# EAGLE library part 74AC11353 (library 74ac-logic)
Dual 4 to 1 line DATA SELECTOR/MULTIPLEXER
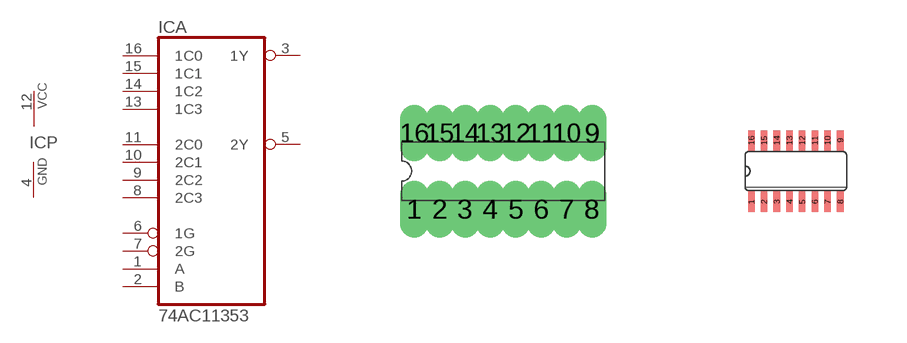
[diagram p42: symbol with the pads of DIL16; footprints DIL16, SO16]

Designator prefix IC; gates A=7411353 P=PWRN

## 74AC11353  [DIL16]
1  A:A  in
2  A:B  in
3  A:1Y  hiz
4  P:GND  pwr
5  A:2Y  hiz
6  A:1G  in
7  A:2G  in
8  A:2C3  in
9  A:2C2  in
10  A:2C1  in
11  A:2C0  in
12  P:VCC  pwr
13  A:1C3  in
14  A:1C2  in
15  A:1C1  in
16  A:1C0  in

## 74AC11353D  [SO16]
Pads as for DIL16

## Footprint DIL16 (pad centres in mm)
Dual In Line Package
drill 0.203 long: 1 -2.223,-0.953; 2 -1.587,-0.953; 3 -0.953,-0.953; 4 -0.318,-0.953; 5 0.318,-0.953; 6 0.953,-0.953; 7 1.587,-0.953; 8 2.223,-0.953; 9 2.223,0.953; 10 1.587,0.953; 11 0.953,0.953; 12 0.318,0.953; 13 -0.318,0.953; 14 -0.953,0.953; 15 -1.587,0.953; 16 -2.223,0.953

## Footprint SO16 (pad centres in mm)
Small Outline package 150 mil
smd 0.165 x 0.508: 1 -1.111,-0.768; 2 -0.794,-0.768; 3 -0.476,-0.768; 4 -0.159,-0.768; 5 0.159,-0.768; 6 0.476,-0.768; 7 0.794,-0.768; 8 1.111,-0.768; 9 1.111,0.768; 10 0.794,0.768; 11 0.476,0.768; 12 0.159,0.768; 13 -0.159,0.768; 14 -0.476,0.768; 15 -0.794,0.768; 16 -1.111,0.768